# EAGLE library part TLV61070ADBVR (library TLV61070ADBVR)
Switching Voltage Regulators Source: Datasheet
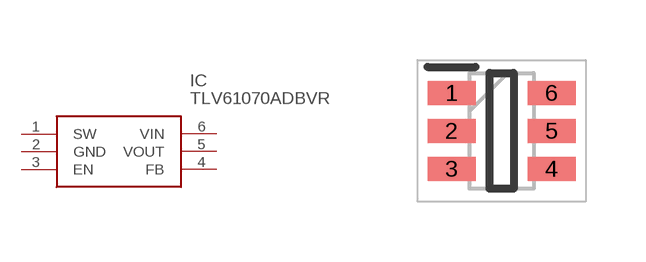
[diagram p0: symbol with the pads of SOT95P280X145-6N; footprint SOT95P280X145-6N]

Designator prefix IC

## TLV61070ADBVR (Description: Switching Voltage Regulators; Height: 1.45mm; Manufacturer_Name: Texas Instruments; Manufacturer_Part_Number: TLV61070ADBVR; Mouser_Part_Number: 595-TLV61070ADBVR; Mouser_Price-Stock: https://www.mouser.co.uk/ProductDetail/Texas-Instruments/TLV61070ADBVR?qs=T%252BzbugeAwjhLlT1empixsw%3D%3D)  [SOT95P280X145-6N]
1  SW
2  GND
3  EN
4  FB
5  VOUT
6  VIN

## Footprint SOT95P280X145-6N (pad centres in mm)
DBV0006A
smd 1.2 x 0.6: 1 -1.25,0.95; 2 -1.25,0; 3 -1.25,-0.95; 4 1.25,-0.95; 5 1.25,0; 6 1.25,0.95